# Altium schematic symbol library DiPho_lib.SchLib: 22 symbols
Pins are listed as number, name and electrical type; pins without a type are passive.

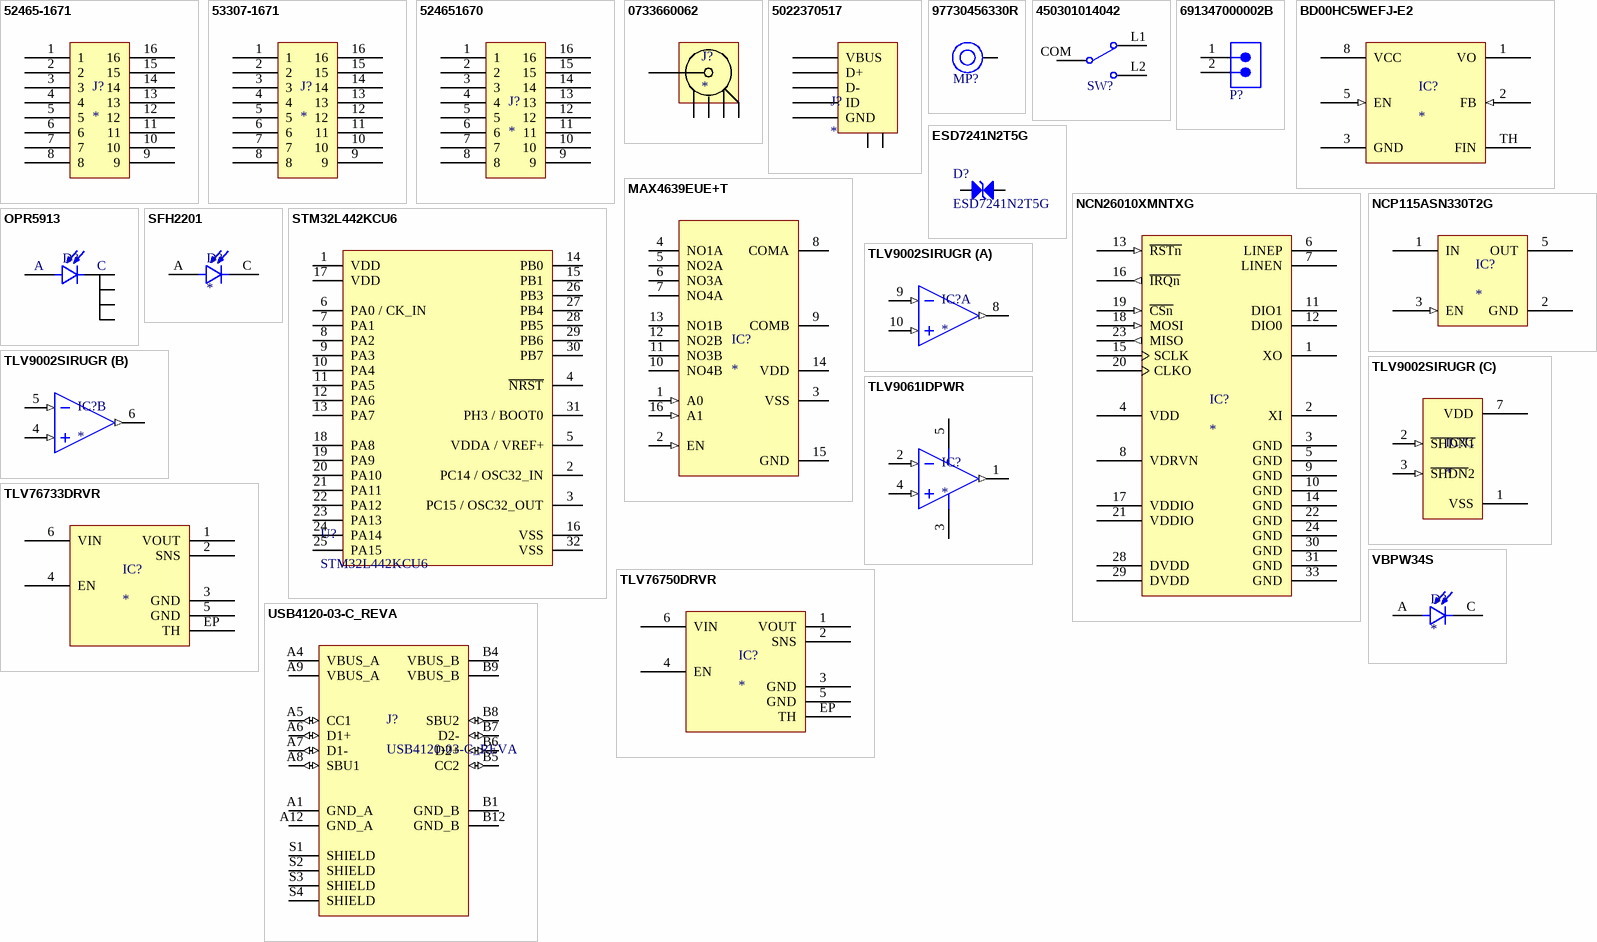
[diagram p0: symbols 52465-1671 to VBPW34S]

## 52465-1671
designator J?
A Connector for Board - Board Connections with A 0.80 mm Pitch. (Molex); Manufacturer Part Number: 52465-1671; Supplier 1: Farnell; Manufacturer: Molex; RoHS: Yes; Category: Headers and Wire Housings; Stock 1: 1320; ComponentLink1URL: https://datasheet.ciiva.com/5130/0524651671-pcb-receptacles-170554-5130522.pdf?src-supplier=Mouser; ComponentLink1Description: https://datasheet.ciiva.com/5130/0524651671-pcb-receptacles-170554-5130522.pdf?src-supplier=Mouser; ComponentLink2URL: https://datasheet.ciiva.com/10078/0524651671-pcb-receptacles-10078959.pdf?src-supplier=Avnet; ComponentLink2Description: https://datasheet.ciiva.com/10078/0524651671-pcb-receptacles-10078959.pdf?src-supplier=Avnet; Supplier Part Number 1: 3500606
footprint 524651671 (Molex Slim Stack, 0.80mm pitch, 20ckt)
pins: 1, 2, 3, 4, 5, 6, 7, 8, 9, 10, 11, 12, 13, 14, 15, 16

## 53307-1671
designator J?
0.80mm Pitch Header Surface Mount Dual Row Vertical Stacking 4.50 and 5.50mm Stacking Heights 16 Circuits; Manufacturer: Molex; Manufacturer Part Number: 53307-1671; Supplier 1: Farnell; RoHS: Yes; Category: Headers and Wire Housings; Stock 1: 7000; ComponentLink1URL: https://datasheet.ciiva.com/5130/0533071671-pcb-headers-170920-5130475.pdf?src-supplier=Mouser; ComponentLink1Description: https://datasheet.ciiva.com/5130/0533071671-pcb-headers-170920-5130475.pdf?src-supplier=Mouser; ComponentLink2URL: https://datasheet.ciiva.com/1440/1875052-1440388.pdf?src-supplier=Element14; ComponentLink2Description: https://datasheet.ciiva.com/1440/1875052-1440388.pdf?src-supplier=Element14; ComponentLink3URL: https://datasheet.ciiva.com/10079/0533071671-pcb-headers-10079144.pdf?src-supplier=Avnet; ComponentLink3Description: https://datasheet.ciiva.com/10079/0533071671-pcb-headers-10079144.pdf?src-supplier=Avnet; Supplier Part Number 1: 3499278
footprint 533071671 (Molex Slim Stack, 0.80mm pitch, 20ckt)
pins: 1, 2, 3, 4, 5, 6, 7, 8, 9, 10, 11, 12, 13, 14, 15, 16

## 524651670
designator J?
Conn 0.8 BtB Hsg Assy SMT 16Ckt EmbsTp Pkg; Manufacturer: Molex; Manufacturer Part Number: 524651670; Supplier 1: Avnet; RoHS: No; Pricing 1: 8000=0,73151 (USD); Supplier Part Number 1: 0524651670
footprint 524651670 (Molex Slim Stack, 0.80mm pitch, 20ckt)
pins: 1, 2, 3, 4, 5, 6, 7, 8, 9, 10, 11, 12, 13, 14, 15, 16

## 0733660062
designator J?
Conn MCX F 50Ohm Solder ST Thru-Hole Gold T/R; Manufacturer: Molex; Manufacturer Part Number: 0733660062; Supplier 1: Digi-Key; RoHS: Yes; Category: RF / Coaxial Connectors; Stock 1: 4164; Pricing 1: 1=2,93000, 10=2,57800, 100=2,05030 (USD); ComponentLink1URL: http://www.molex.com/pdm_docs/sd/733660062_sd.pdf?src-supplier=Digi-Key; ComponentLink1Description: http://www.molex.com/pdm_docs/sd/733660062_sd.pdf?src-supplier=Digi-Key; Supplier Part Number 1: WM14943CT-ND
footprint 73366-0062 (MCX jack vertical PCB TH 50 ohms)
pins: C1, C2, C3, C4, H

## 5022370517
designator J?
Conn Mini USB Type B RCP 5 POS 0.8mm Solder ST Thru-Hole 5 Terminal 1 Port USB 2.0 Tray; Manufacturer: Molex; Manufacturer Part Number: 5022370517; Supplier 1: Farnell; RoHS: Yes; Category: USB Connectors; Stock 1: 3624; ComponentLink1URL: https://datasheet.ciiva.com/12494/5022370517-sd-129854-12494635.pdf?src-supplier=Mouser; ComponentLink1Description: https://datasheet.ciiva.com/12494/5022370517-sd-129854-12494635.pdf?src-supplier=Mouser; ComponentLink2URL: https://datasheet.ciiva.com/3094/5022370517-sd-3094984.pdf?src-supplier=Avnet; ComponentLink2Description: https://datasheet.ciiva.com/3094/5022370517-sd-3094984.pdf?src-supplier=Avnet; ComponentLink3URL: https://datasheet.ciiva.com/851/5022370517-sd-851837.pdf?src-supplier=Digi-Key; ComponentLink3Description: https://datasheet.ciiva.com/851/5022370517-sd-851837.pdf?src-supplier=Digi-Key; Supplier Part Number 1: 3051509
footprint 502237-0517 (USB series mini-B straight receptacle assembly)
pins: D+, D-, GND, ID, SH1, SH2, VBUS

## 97730456330R
designator MP?, comment M1.6 x 4.5mm  (value not drawn)
WA-SMSI SMT Steel Spacer with internal Thread Bottom closed, OD 3.3mm, M1.6 x 4.5mm; Manufacturer Part Number: 97730456330R; Manufacturer: Wurth Elektronik; Inside Thread Length: 2mm; Surface: Tin; ComponentLink1Description: Website Link; ComponentLink1URL: https://www.we-online.com/redexpert/article/97730456330R?ad; ComponentLink2Description: Datasheet Link; ComponentLink2URL: https://www.we-online.com/redexpert/spec/97730456330R?ad; Category: SMT Spacers; Match Code: WA-SMSI; Mount: Surface Mount; Operating Temperature Max: 150°C; Operating Temperature Min: -55°C; Packaging: Tape and Reel; Height: 4.5mm; Material: Steel; Outside Diameter: 3.3mm; Thread Size: M1.6
footprint 97730456330
pins: 1

## 450301014042
designator SW?  (value not drawn)
WS-SLTV THT Mini Slide Switch, Opposite Side Connection, SPDT, 12VDC, 500mA, 800g; Manufacturer: Wurth Elektronik; ComponentLink1Description: Website Link; ComponentLink1URL: https://www.we-online.com/redexpert/article/450301014042?ad; ComponentLink2Description: Datasheet Link; ComponentLink2URL: https://www.we-online.com/redexpert/spec/450301014042?ad; Manufacturer Part Number: 450301014042; Category: Slide Switches; Match Code: WS-SLTV; Mount: Through Hole; Operating Temperature Max: 85°C; Operating Temperature Min: -40°C; Packaging: Bulk; Length: 10mm; Width: 2.5mm; Height: 6.4mm; Circuit: SPDT; Contact Material: Copper Alloy; Contact Plating: Gold; Operation Force: 800g; Rated Current: 500mA; Rated Voltage: 12VDC; Terminal Material: Copper Alloy; Terminal Plating: Gold
footprint 450301014042
pins: COM, L1, L2

## 691347000002B
designator P?  (value not drawn)
WR-TBL Series 3470B PCB Header Vertical cable entry, THT, pitch 2.5mm, 2p; Manufacturer: Wurth Elektronik; Modularity: No; Rated Current: 6A; Working Voltage: 150V; ComponentLink1Description: Website Link; ComponentLink1URL: https://www.we-online.com/redexpert/article/691347000002B?ad; ComponentLink2Description: Datasheet Link; ComponentLink2URL: https://www.we-online.com/redexpert/spec/691347000002B?ad; Manufacturer Part Number: 691347000002B; Category: Terminal Blocks; Match Code: WR-TBL; Mount: Through Hole; Operating Temperature Max: 105°C; Operating Temperature Min: -40°C; Packaging: Carton; Application: Plug Screwless Push In; Number of Pins: 2; Number of Rows: 1; Orientation: Vertical Cable Entry; Pitch: 2.5mm
footprint 691347000002B
pins: 1, 2

## BD00HC5WEFJ-E2
designator IC?
LDO Regulator Pos 0.8V to 4.5V 1.5A 8-Pin HTSOP-J EP T/R; Manufacturer: Rohm; Manufacturer Part Number: BD00HC5WEFJ-E2; Dropout Voltage: 600mV; Number of Outputs: 1; Max Input Voltage: 8V; Output Voltage: 7V; Max Power Dissipation: 2.11W; Output Type: Adjustable; Min Output Voltage: 1.5V; Supplier 1: RSComponents; RoHS: Yes; Category: Voltage Regulators - Linear; Stock 1: 2500; Mount: Surface Mount; Number of Pins: 8; Contact Plating: Copper,Tin; Min Operating Temperature: -25°C; Max Operating Temperature: 85°C; Package Quantity: 1; Packaging: Tape and Reel; Output Current: 1.5A; Min Input Voltage: 4.5V; Max Output Current: 1.5A; Number of Regulators: 1; Max Output Voltage: 7V; Series: -; REACH SVHC: Unknown; RoHS Compliant: Yes; Lead Free: Lead Free; ComponentLink1URL: https://datasheet.ciiva.com/23909/1747247-23909522.pdf?src-supplier=Newark; ComponentLink1Description: https://datasheet.ciiva.com/23909/1747247-23909522.pdf?src-supplier=Newark; ComponentLink2URL: https://datasheet.ciiva.com/2040/bd00hc5wefj-e-2040163.pdf?src-supplier=Digi-Key; ComponentLink2Description: https://datasheet.ciiva.com/2040/bd00hc5wefj-e-2040163.pdf?src-supplier=Digi-Key; ComponentLink3URL: https://datasheet.ciiva.com/13009/bd00hc5wefj-e-210854-13009750.pdf?src-supplier=Mouser; ComponentLink3Description: https://datasheet.ciiva.com/13009/bd00hc5wefj-e-210854-13009750.pdf?src-supplier=Mouser; ComponentLink4URL: https://datasheet.ciiva.com/22732/1747247-22732891.pdf?src-supplier=Element14; ComponentLink4Description: https://datasheet.ciiva.com/22732/1747247-22732891.pdf?src-supplier=Element14; Supplier Part Number 1: 1780037
footprint TSOP127P600X100_HS-9L (TSOP, 8-Leads, Body 5,00x3,90mm, Pitch 1,27mm, Thermal Pad 3,20x2,40mm, IPC High Density)
pins: 1 VO (power), 2 FB (in), 3 GND (power), 5 EN (in), 8 VCC (power), TH FIN (power)

## ESD7241N2T5G
designator D?
Ultra-Low Capacitance ESD Protection Ultra-Low Capacitance ESD Protection; Manufacturer: ON Semiconductor; Number of Bidirectional Channels: 1; Reverse Standoff Voltage: 24V; Min Breakdown Voltage: 24.3V; Clamping Voltage: 48V; Power Line Protection: No; Supplier 1: Mouser; Manufacturer Part Number: ESD7241N2T5G; RoHS: Yes; Category: ESD and Circuit Protection ICs; Stock 1: 26036; Pricing 1: 1=0,37000, 10=0,30200, 50=0,30200, 100=0,20600, 1000=0,11600, 10000=0,09300 (USD); Mount: Surface Mount; Number of Pins: 2; Min Operating Temperature: -55°C; Max Operating Temperature: 150°C; Resistor Type: Zener; Packaging: Cut Tape; ComponentLink1URL: http://www.farnell.com/datasheets/2907080.pdf?src-supplier=Farnell; ComponentLink1Description: http://www.farnell.com/datasheets/2907080.pdf?src-supplier=Farnell; ComponentLink2URL: http://www.onsemi.com/pub/Collateral/ESD7241-D.PDF?src-supplier=Digi-Key; ComponentLink2Description: http://www.onsemi.com/pub/Collateral/ESD7241-D.PDF?src-supplier=Digi-Key; Supplier Part Number 1: 863-ESD7241N2T5G
footprint DFN65P100X40-2N (DFN, 2-Leads, Body 0,60x1,00mm, Pitch 0,65mm, IPC Medium Density)
pins: 1, 2

## MAX4639EUE+T
designator IC?
MAX4639 Series SP4T 2.5V 3.5 Ohm Surface Mount Analog Switch - TSSOP-16; Manufacturer: Maxim; Manufacturer Part Number: MAX4639EUE+T; Min Supply Voltage: 1.8V; Max Supply Voltage: 5.5V; Min Dual Supply Voltage: 900mV; Max Dual Supply Voltage: 2.75V; Propagation Delay: 18ns; Bandwidth: 85MHz; Max Power Dissipation: 457mW; On-State Resistance: 3.5R; Turn-On Delay Time: 20ns; Turn-Off Delay Time: 9ns; Number of Channels: 2; Operating Supply Current: 1uA; Operating Supply Voltage: 5V; Logic Function: Multiplexer; Supply Type: Single,Dual; Supplier 1: Newark; RoHS: Yes; Category: Interface ICs; Stock 1: 5520; Pricing 1: 1=6,47000, 10=5,85000, 25=5,58000, 50=5,22000, 100=4,85000, 250=4,63000, 500=4,22000, 1000=4,08000 (USD); Mount: Surface Mount; Case/Package: TSSOP; Number of Pins: 16; Min Operating Temperature: -40°C; Max Operating Temperature: 85°C; Packaging: Tape and Reel; Package Quantity: 2500; Number of Switches: 2; Series: -; Radiation Hardening: No; RoHS Compliant: Yes; ComponentLink1URL: https://datasheet.ciiva.com/12185/max4638-max4639-64806-12185552.pdf?src-supplier=Mouser; ComponentLink1Description: https://datasheet.ciiva.com/12185/max4638-max4639-64806-12185552.pdf?src-supplier=Mouser; ComponentLink2URL: https://datasheet.ciiva.com/2979/max4638-max4639-2979809.pdf?src-supplier=Avnet; ComponentLink2Description: https://datasheet.ciiva.com/2979/max4638-max4639-2979809.pdf?src-supplier=Avnet; ComponentLink3URL: https://datasheet.ciiva.com/1685/max4638-max4639-1685689.pdf?src-supplier=Digi-Key; ComponentLink3Description: https://datasheet.ciiva.com/1685/max4638-max4639-1685689.pdf?src-supplier=Digi-Key; Supplier Part Number 1: 69AH0947
footprint TSOP65P640X110-16L (TSOP, 16-Leads, Body 5,00x4,40mm, Pitch 0,65mm, IPC High Density)
pins: 1 A0 (in), 2 EN (in), 3 VSS (power), 4 NO1A, 5 NO2A, 6 NO3A, 7 NO4A, 8 COMA, 9 COMB, 10 NO4B, 11 NO3B, 12 NO2B, 13 NO1B, 14 VDD (power), 15 GND (power), 16 A1 (in)

## NCN26010XMNTXG
designator IC?
Ethernet Controller, 10 Mb/s, Single-Pair, MAC + PHY, 802.3cg, 10BASE−T1S Compliant; Manufacturer: ON Semiconductor; Manufacturer Part Number: NCN26010XMNTXG; Supplier 1: Arrow Electronics; RoHS: No; Stock 1: 369; Pricing 1: 1=7,29220, 10=6,57460, 25=6,24800, 100=5,59360, 250=5,34180 (USD); Supplier Part Number 1: NCN26010XMNTXG
footprint QFN40P400X400X100_HS-33N (QFN, 32-Leads, Body 4,00x4,00mm, Pitch 0,40mm, Thermal Pad 2,80x2,80mm, IPC Medium Density)
pins: 1 XO, 2 XI, 3 GND (power), 4 VDD (power), 5 GND (power), 6 LINEP, 7 LINEN, 8 VDRVN (power), 9 GND (power), 10 GND (power), 11 DIO1, 12 DIO0, 13 ~{RSTn} (in), 14 GND (power), 15 SCLK, 16 ~{IRQn} (out), 17 VDDIO (power), 18 MOSI (in), 19 ~{CSn} (in), 20 CLKO, 21 VDDIO (power), 22 GND (power), 23 MISO (out), 24 GND (power), 28 DVDD (power), 29 DVDD (power), 30 GND (power), 31 GND (power), 33 GND (power)

## NCP115ASN330T2G
designator IC?
LDO Regulator, 300 mA, Low Iq, High PSRR, High Accuracy 3.3V, TSOP5, Active Discharge, Normal Vout Slew-Rate; Manufacturer: ON Semiconductor; Manufacturer Part Number: NCP115ASN330T2G; Supplier 1: Farnell; RoHS: Yes; Category: Voltage Regulators - Linear; Stock 1: 6044; RoHS Compliant: No; Supplier Part Number 1: 3280613
footprint SOT95P275X110-5N (SOT23, 5-Leads, Body 3,00x2,75mm, Pitch 0,95mm, IPC Medium Density)
pins: 1 IN (power), 2 GND (power), 3 EN (in), 5 OUT (power)

## OPR5913
designator D?
Surface mount PIN photodiode, SMD-8, RoHS; Manufacturer: TT Optek; Manufacturer Part Number: OPR5913; Wavelength: 880nm; Dark Current: 100nA; Max Reverse Voltage (DC): 10V; Responsivity: 0.4A/W; Supplier 1: Newark; RoHS: Yes; Category: Optical Sensors; Pricing 1: 1=17,31000, 10=16,18000, 25=15,70000, 50=14,18000, 100=13,35000, 250=11,75000 (USD); Mount: Surface Mount; Case/Package: SMD/SMT; Number of Pins: 8; Min Operating Temperature: -55°C; Max Operating Temperature: 125°C; Packaging: Tray; Package Quantity: 25; Diode Type: PIN; Reverse Voltage: 10V; RoHS Compliant: Yes; ComponentLink1URL: https://datasheet.ciiva.com/2820/opr5910-5913-5915-2820071.pdf?src-supplier=Digi-Key; ComponentLink1Description: https://datasheet.ciiva.com/2820/opr5910-5913-5915-2820071.pdf?src-supplier=Digi-Key; Supplier Part Number 1: 09AK6399
footprint LCCS249P899X899X167-8N (LCC, 8-Pins, Body 8,99x8,99mmx1,67mm, Pitch 2,49mm, IPC Medium Density)
pins: 1 A, 2 C, 3 C, 6 C, 7 C

## SFH2201
designator D?
footprint SFH_2201
pins: A, C

## STM32L442KCU6
designator U?
Ultra-low-power with FPU ARM Cortex-M4 MCU 80 MHz with 256 Kbytes Flash, USB, AES-256; Manufacturer: STMicroelectronics; Supplier 1: Mouser; Manufacturer Part Number: STM32L442KCU6; RoHS: No; Category: Microcontrollers; Stock 1: 198; Pricing 1: 1=6,31, 10=5,7, 50=5,44, 100=4,72, 1000=3,82, 10000=3,82 (USD); ComponentLink1URL: https://datasheet.octopart.com/STM32L442KCU6-STMicroelectronics-datasheet-140260415.pdf?src-supplier=Farnell; ComponentLink1Description: https://datasheet.octopart.com/STM32L442KCU6-STMicroelectronics-datasheet-140260415.pdf?src-supplier=Farnell; ComponentLink2URL: http://www.st.com/content/ccc/resource/technical/document/programming_manual/6c/3a/cb/e7/e4/ea/44/9b/DM00046982.pdf/files/DM00046982.pdf/jcr:content/translations/en.DM00046982.pdf?src-supplier=Digi-Key; ComponentLink2Description: http://www.st.com/content/ccc/resource/technical/document/programming_manual/6c/3a/cb/e7/e4/ea/44/9b/DM00046982.pdf/files/DM00046982.pdf/jcr:content/translations/en.DM00046982.pdf?src-supplier=Digi-Key; ComponentLink3URL: https://datasheet.octopart.com/STM32L442KCU6-STMicroelectronics-datasheet-163660278.pdf?src-supplier=SHENGYU+ELECTRONICS; ComponentLink3Description: https://datasheet.octopart.com/STM32L442KCU6-STMicroelectronics-datasheet-163660278.pdf?src-supplier=SHENGYU+ELECTRONICS; Supplier Part Number 1: 511-STM32L442KCU6
footprint UFQFPN32 (QFN, 32-Leads, Body 5,00x5,00mm, Pitch 0,50mm, Thermal Pad 3,45x3,45mm, IPC Medium Density)
pins: 1 VDD, 2 PC14 / OSC32_IN, 3 PC15 / OSC32_OUT, 4 ~{NRST}, 5 VDDA / VREF+, 6 PA0 / CK_IN, 7 PA1, 8 PA2, 9 PA3, 10 PA4, 11 PA5, 12 PA6, 13 PA7, 14 PB0, 15 PB1, 16 VSS, 17 VDD, 18 PA8, 19 PA9, 20 PA10, 21 PA11, 22 PA12, 23 PA13, 24 PA14, 25 PA15, 26 PB3, 27 PB4, 28 PB5, 29 PB6, 30 PB7, 31 PH3 / BOOT0, 32 VSS

## TLV9002SIRUGR
designator IC?
Rail-to-Rail Input/Output Operational Amplifier Dual 1.8V to 5.5V 10-Pin X2QFN T/R; Manufacturer: Texas Instruments; Manufacturer Part Number: TLV9002SIRUGR; Supplier 1: Digi-Key; RoHS: Yes; Category: Amplifiers - Op Amps, Buffer, Instrumentation; Stock 1: 2771; Pricing 1: 1=0,89000, 10=0,78400, 25=0,73600, 100=0,60070, 250=0,55800, 500=0,47488, 1000=0,37990 (USD); Supplier Part Number 1: 296-TLV9002SIRUGRCT-ND
footprint QFN50P150X200X40-10N (QFN, 10-Leads, Body 1,50x2,00mm, Pitch 0,50mm, IPC Medium Density)
part A pins: 8 OUT (out), 9 IN- (in), 10 IN+ (in)
part B pins: 4 IN+ (in), 5 IN- (in), 6 OUT (out)
part C pins: 1 VSS, 2 ~{SHDN1} (in), 3 ~{SHDN}2 (in), 7 VDD

## TLV9061IDPWR
designator IC?
Industry's smallest 10MHz, RRIO, 1.8V-5.5V operational amplifier 5-X2SON -40 to 125; Manufacturer: Texas Instruments; Manufacturer Part Number: TLV9061IDPWR; Number of Channels: 1; Slew Rate: 6.5V/µs; Input Bias Current: 0.5pA; Input Offset Voltage (Vos): 300uV; Operating Supply Current: 538uA; Output Current per Channel: 50mA; Supplier 1: Arrow Electronics; RoHS: Yes; Category: Amplifiers - Op Amps, Buffer, Instrumentation; Stock 1: 6000; Pricing 1: 1=0,36580 (USD); Mount: Surface Mount; Min Operating Temperature: -40°C; Max Operating Temperature: 125°C; Packaging: Cut Tape; Number of Circuits: 1; Gain Bandwidth Product: 10MHz; RoHS Compliant: Yes; ComponentLink1URL: http://www.ti.com/lit/ds/symlink/tlv9061.pdf?src-supplier=Farnell; ComponentLink1Description: http://www.ti.com/lit/ds/symlink/tlv9061.pdf?src-supplier=Farnell; ComponentLink2URL: http://www.ti.com/lit/ds/symlink/tlv9061.pdf?src-supplier=Digi-Key; ComponentLink2Description: http://www.ti.com/lit/ds/symlink/tlv9061.pdf?src-supplier=Digi-Key; Supplier Part Number 1: TLV9061IDPWR
footprint SON127P80X40-5N (SON, 0-Leads, Body 0,80x0,80mm, Pitch 1,27mm, IPC Medium Density)
pins: 1 OUT (out), 2 IN- (in), 3 V- (power), 4 IN+ (in), 5 V+ (power)

## TLV76733DRVR
designator IC?
Precision Linear Voltage Regulator Positive 3.3V 1A 6-Pin WSON T/R; Manufacturer: Texas Instruments; Manufacturer Part Number: TLV76733DRVR; RoHS: Yes; Category: Voltage Regulators - Linear; Stock 1: 13794; Pricing 1: 1=0,92000, 10=0,82200, 25=0,78040, 100=0,64120, 250=0,59936, 500=0,52968, 1000=0,42080 (USD); ComponentLink1URL: http://www.ti.com/general/docs/suppproductinfo.tsp?distId=10&amp;gotoUrl=http%3A%2F%2Fwww.ti.com%2Flit%2Fgpn%2Ftlv767&src-supplier=Digi-Key; ComponentLink1Description: http://www.ti.com/general/docs/suppproductinfo.tsp?distId=10&amp;gotoUrl=http%3A%2F%2Fwww.ti.com%2Flit%2Fgpn%2Ftlv767&src-supplier=Digi-Key
footprint SON65P200X80_HS-7N (SON, 6-Leads, Body 2,00x2,00mm, Pitch 0,65mm, Thermal Pad 1,60x0,89mm, IPC Medium Density)
pins: 1 VOUT, 2 SNS, 3 GND, 4 EN, 5 GND, 6 VIN, EP TH

## TLV76750DRVR
designator IC?
Precision Linear Voltage Regulator Positive 5V 1A 6-Pin WSON T/R; Manufacturer: Texas Instruments; Manufacturer Part Number: TLV76750DRVR; Supplier 1: Digi-Key; RoHS: Yes; Category: Voltage Regulators - Linear; Stock 1: 13794; Pricing 1: 1=0,92000, 10=0,82200, 25=0,78040, 100=0,64120, 250=0,59936, 500=0,52968, 1000=0,42080 (USD); ComponentLink1URL: http://www.ti.com/general/docs/suppproductinfo.tsp?distId=10&amp;gotoUrl=http%3A%2F%2Fwww.ti.com%2Flit%2Fgpn%2Ftlv767&src-supplier=Digi-Key; ComponentLink1Description: http://www.ti.com/general/docs/suppproductinfo.tsp?distId=10&amp;gotoUrl=http%3A%2F%2Fwww.ti.com%2Flit%2Fgpn%2Ftlv767&src-supplier=Digi-Key; Supplier Part Number 1: 296-TLV76750DRVRCT-ND
footprint SON65P200X80_HS-7N (SON, 6-Leads, Body 2,00x2,00mm, Pitch 0,65mm, Thermal Pad 1,60x0,89mm, IPC Medium Density)
pins: 1 VOUT, 2 SNS, 3 GND, 4 EN, 5 GND, 6 VIN, EP TH

## USB4120-03-C_REVA
designator J?
Package: None; MP: USB4120-03-C_REVA; Value: *; Availability: Unavailable; Price: None
footprint GCT_USB4120-03-C_REVA
pins: A1 GND_A (power), A4 VBUS_A (power), A5 CC1 (io), A6 D1+ (io), A7 D1- (io), A8 SBU1 (io), A9 VBUS_A (power), A12 GND_A (power), B1 GND_B (power), B4 VBUS_B (power), B5 CC2 (io), B6 D2+ (io), B7 D2- (io), B8 SBU2 (io), B9 VBUS_B (power), B12 GND_B (power), S1 SHIELD, S2 SHIELD, S3 SHIELD, S4 SHIELD

## VBPW34S
designator D?
IR-photodiode Photoelectric current: 45...55 uA Wavelength of max. photosensitivity: 940 nm; Manufacturer: Vishay; Manufacturer Part Number: VBPW34S; Wavelength: 940nm; Rise Time: 100ns; Dark Current: 2nA; Viewing Angle: 130°; Reverse Breakdown Voltage: 60V; Power Dissipation: 215mW; Diode Type: PIN; Forward Voltage: 1.3V; Forward Current: 50mA; Supplier 1: Farnell; RoHS: Yes; Category: Photodiodes; Mount: Surface Mount,PCB; Case/Package: SMD/SMT; Number of Pins: 2; Contact Plating: Tin; Min Operating Temperature: -40°C; Max Operating Temperature: 100°C; Packaging: Tape and Reel; Fall Time: 100ns; Package Quantity: 1; Max Reverse Voltage (DC): 60V; Response Time: 100ns; Max Power Dissipation: 215mW; Reverse Voltage (DC): 60V; Series: -; Breakdown Voltage: 60V; Length: 4.4mm; Width: 3.9mm; Height: 1.2mm; Radiation Hardening: No; REACH SVHC: Unknown; RoHS Compliant: Yes; Lead Free: Lead Free; ComponentLink1URL: https://datasheet.ciiva.com/2819/vbpw34s-2819712.pdf?src-supplier=Digi-Key; ComponentLink1Description: https://datasheet.ciiva.com/2819/vbpw34s-2819712.pdf?src-supplier=Digi-Key; ComponentLink2URL: https://datasheet.ciiva.com/1336/485095-1336336.pdf?src-supplier=Newark; ComponentLink2Description: https://datasheet.ciiva.com/1336/485095-1336336.pdf?src-supplier=Newark; ComponentLink3URL: https://datasheet.ciiva.com/26941/getdatasheetpartid-402658-26941846.pdf?src-supplier=Verical; ComponentLink3Description: https://datasheet.ciiva.com/26941/getdatasheetpartid-402658-26941846.pdf?src-supplier=Verical; ComponentLink4URL: https://datasheet.ciiva.com/4697/vbpw34s-75683-4697656.pdf?src-supplier=Mouser; ComponentLink4Description: https://datasheet.ciiva.com/4697/vbpw34s-75683-4697656.pdf?src-supplier=Mouser; ComponentLink5URL: https://datasheet.ciiva.com/4270/2vbpw34s-4270116.pdf?src-supplier=Arrow+Electronics; ComponentLink5Description: https://datasheet.ciiva.com/4270/2vbpw34s-4270116.pdf?src-supplier=Arrow+Electronics; ComponentLink6URL: https://datasheet.ciiva.com/1249/vbpw34s-1249217.pdf?src-supplier=Element14; ComponentLink6Description: https://datasheet.ciiva.com/1249/vbpw34s-1249217.pdf?src-supplier=Element14; ComponentLink7URL: https://datasheet.ciiva.com/1249/485095-1249011.pdf?src-supplier=Element14; ComponentLink7Description: https://datasheet.ciiva.com/1249/485095-1249011.pdf?src-supplier=Element14; ComponentLink8URL: https://datasheet.ciiva.com/9218/vbpw34s-9218633.pdf?src-supplier=Avnet; ComponentLink8Description: https://datasheet.ciiva.com/9218/vbpw34s-9218633.pdf?src-supplier=Avnet; ComponentLink9URL: https://datasheet.ciiva.com/2819/vbpw34s-2819710.pdf?src-supplier=Digi-Key; ComponentLink9Description: https://datasheet.ciiva.com/2819/vbpw34s-2819710.pdf?src-supplier=Digi-Key; ComponentLink10URL: https://datasheet.ciiva.com/2819/vbpw34s-2819711.pdf?src-supplier=Digi-Key; ComponentLink10Description: https://datasheet.ciiva.com/2819/vbpw34s-2819711.pdf?src-supplier=Digi-Key; ComponentLink11URL: https://datasheet.ciiva.com/46390/1809628-46390726.pdf?src-supplier=Element14; ComponentLink11Description: https://datasheet.ciiva.com/46390/1809628-46390726.pdf?src-supplier=Element14; Supplier Part Number 1: 1779702
footprint SOT0P705X130-2M (SOT223, 2-Leads, Body 3,90x7,05mm (avg), Pitch 0,00mm, IPC Low Density)
pins: A, C